# EAGLE library part OKL-T/6 (library pizaid)
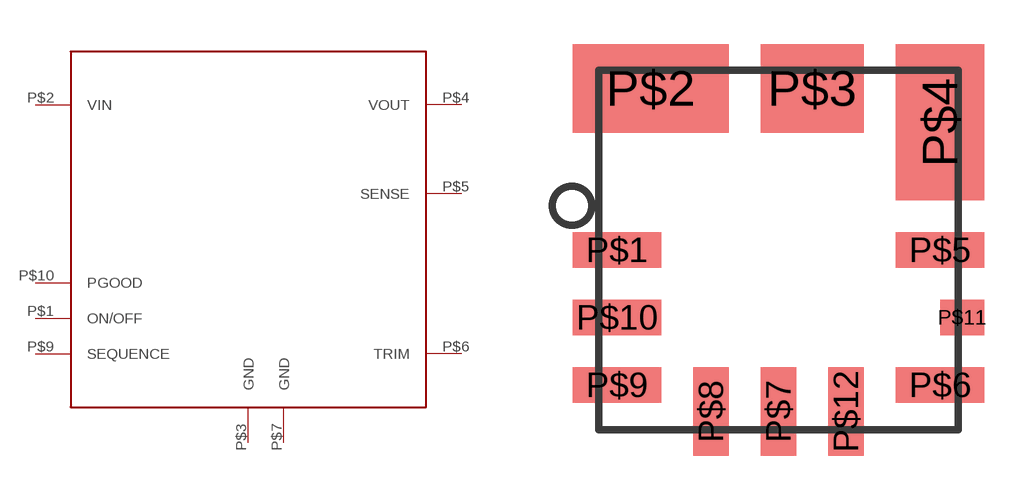
[diagram p1: symbol with the pads of OKL-T/6; footprint OKL-T/6]

Designator prefix -

## OKL-T/6  [OKL-T/6]
P$1  ON/OFF  in
P$2  VIN  pwr
P$3  GND  pwr
P$4  VOUT  pwr
P$5  SENSE  in
P$6  TRIM  in
P$7  GND  pwr
P$9  SEQUENCE  in
P$10  PGOOD  out

## Footprint OKL-T/6 (pad centres in mm)
smd 3 x 1.2: P$1 -5.48,0; P$5 5.48,0; P$6 5.48,-4.58; P$9 -5.48,-4.58; P$10 -5.48,-2.29
smd 5.29 x 3: P$2 -4.335,5.48
smd 3.49 x 3: P$3 1.145,5.48
smd 3 x 5.29: P$4 5.48,4.335
smd 1.2 x 3: P$7 0,-5.48; P$8 -2.29,-5.48; P$12 2.29,-5.48
smd 1.5 x 1.2: P$11 6.23,-2.29